# EAGLE library part 4_PRESETS_V1 (library PedalSync_Module_Footprint_Library_v2)
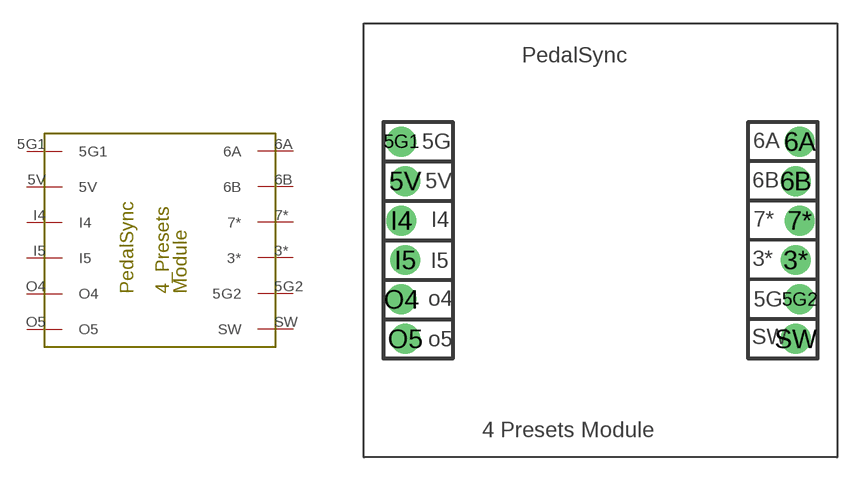
[diagram p4: symbol with the pads of 4_PRESETS_V1; footprint 4_PRESETS_V1]

Designator prefix -

## 4_PRESETS_V1  [4_PRESETS_V1]
3*  3*
5G1  5G1
5G2  5G2
5V  5V
6A  6A
6B  6B
7*  7*
I4  I4
I5  I5
O4  O4
O5  O5
SW  SW

## Footprint 4_PRESETS_V1 (pad centres in mm)
drill 0.9 pad 1.93 round: 3* 27.813,12.7; 5G1 2.421,20.32; 5G2 28.067,10.16; 5V 2.667,17.78; 6A 28.067,20.32; 6B 27.813,17.78; 7* 28.067,15.24; I4 2.413,15.24; I5 2.667,12.7; O4 2.413,10.16; O5 2.667,7.62; SW 27.813,7.62